# Altium schematic symbol library Schlib2.SchLib: 31 symbols
Pins are listed as number, name and electrical type; pins without a type are passive.

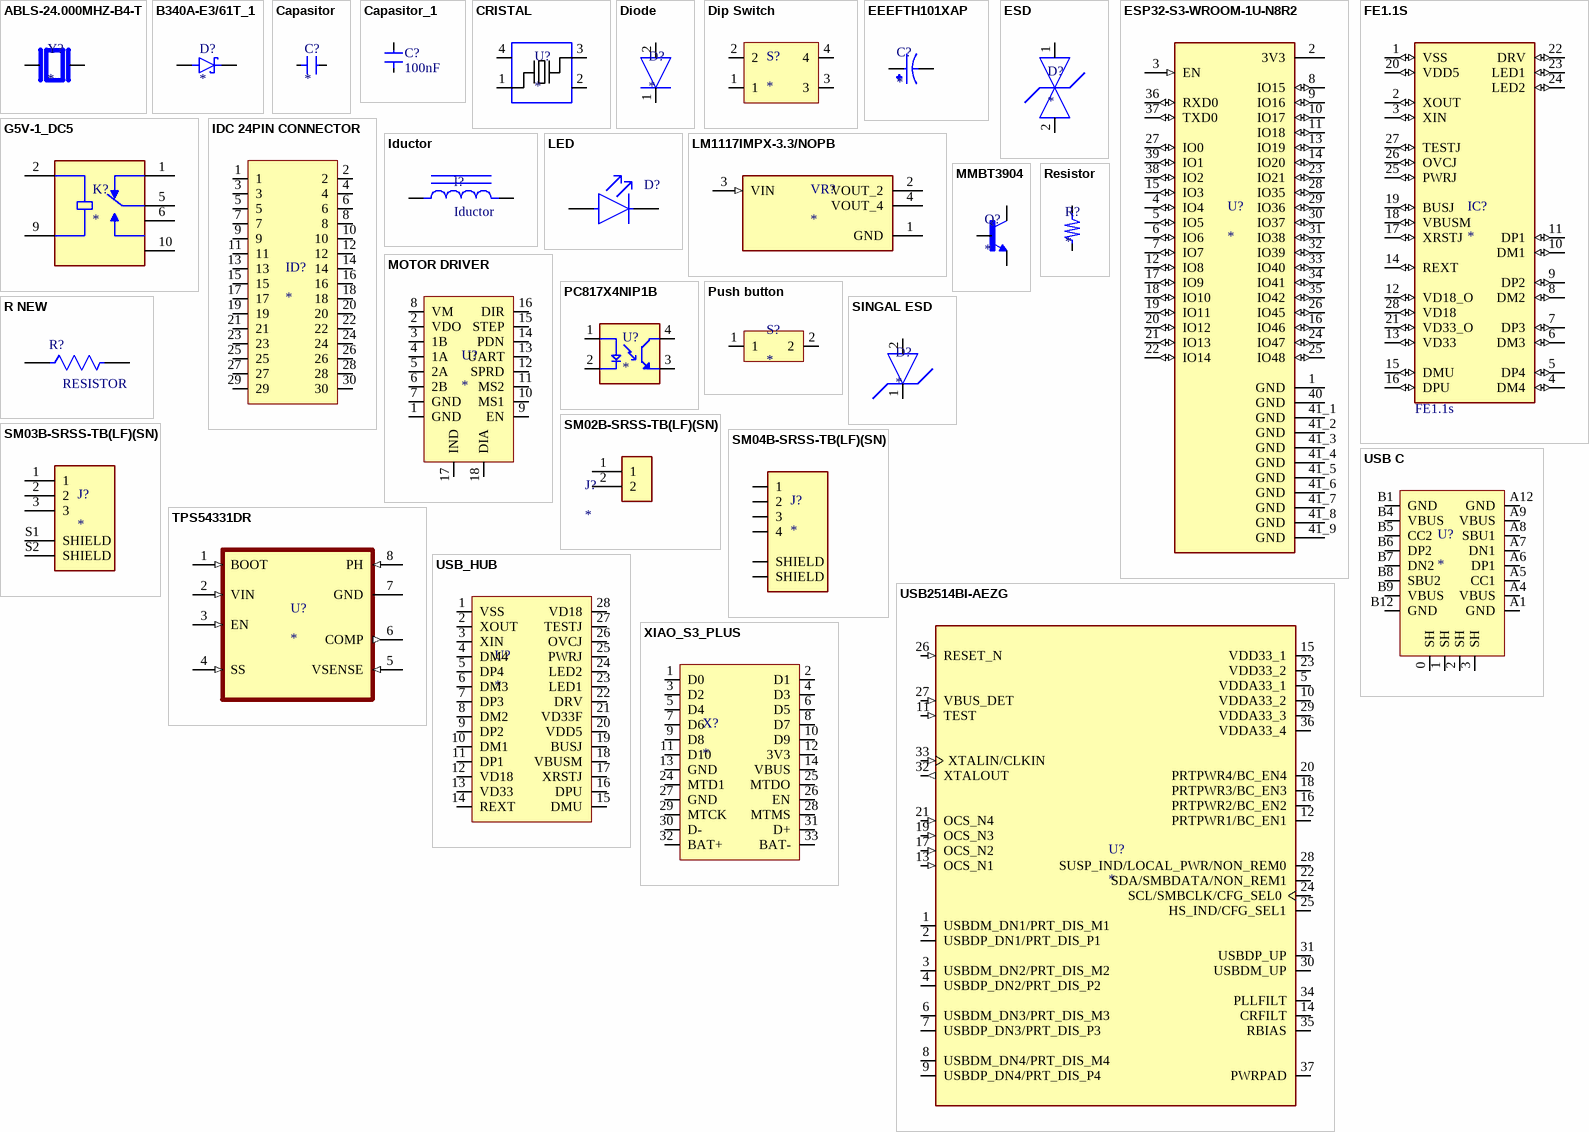
[diagram p0: symbols ABLS-24.000MHZ-B4-T to XIAO_S3_PLUS]

## ABLS-24.000MHZ-B4-T
designator Y?
HC/49US (AT49) SMD LOW PROFILE CRYSTAL; MF: Abracon LLC; MP: ABLS-24.000MHZ-B4-T; SnapEDA_Link: https://www.snapeda.com/parts/ABLS-24.000MHZ-B4-T/Abracon/view-part/?ref=snap; Package: HC-49/US Abracon LLC; Value: *; Check_prices: https://www.snapeda.com/parts/ABLS-24.000MHZ-B4-T/Abracon/view-part/?ref=eda
footprint XTAL_ABLS-24.000MHZ-B4-T
pins: 1, 2

## B340A-E3/61T_1
designator D?
Diode Schottky 40 V 3A Surface Mount DO-214AC (SMA); MF: Vishay Semiconductor; MP: B340A-E3/61T; SnapEDA_Link: https://www.snapeda.com/parts/B340A-E3/61T/Vishay/view-part/?ref=snap; Package: DO-214 Vishay Semiconductor; Value: *; Check_prices: https://www.snapeda.com/parts/B340A-E3/61T/Vishay/view-part/?ref=eda
footprint DIOM5126X229N
pins: A, C

## Capasitor
designator C?
Part Number: *; Manufacture: *; Footprint size: *; ComponentLink1Description: New link; ComponentLink1URL: *; Supplier: *; Supplier Part Number: *; Link: *
pins: 1, 2

## Capasitor_1
designator C?, comment 100nF
Part Number: CC0603JRX7R9BB104; Manufacture: YAGEO; Footprint size: 0603; ComponentLink1Description: New link; ComponentLink1URL: *; Supplier: LCSC; Supplier Part Number: C91183; Link: https://www.lcsc.com/product-detail/C91183.html
footprint CAP 0603
pins: 1, 2

## CRISTAL
designator U?
pins: 1, 2, 3, 4

## Diode
designator D?
Manufacture: *; Part Number: *; Footprint size: *; Supplier Part Number: *; Supplier: *; Link: *
pins: 1, 2

## Dip Switch
designator S?
Manufacture: *; Part Number: *; Footprint size: *; Supplier: *; Supplier Part Number: *; Link: *
pins: 1, 2, 3, 4

## EEEFTH101XAP
designator C?
100ÂµF 50V Aluminum Electrolytic Capacitors Radial, Can - SMD 340mOhm @ 100kHz 2000 Hrs @ 105Â°C; MF: Panasonic Electronic; MP: EEE-FTH101XAP; SnapEDA_Link: https://www.snapeda.com/parts/EEE-FTH101XAP/Panasonic/view-part/?ref=snap; Package: RADIAL-2 Panasonic; Value: *; Check_prices: https://www.snapeda.com/parts/EEE-FTH101XAP/Panasonic/view-part/?ref=eda
footprint CAP_EEEFTH101XAP
pins: 1, 2

## ESD
designator D?
pins: 1, 2

## ESP32-S3-WROOM-1U-N8R2
designator U?
Bluetooth, WiFi 802.11b/g/n, Bluetooth v5.0 Transceiver Module 2.4GHz Antenna Not Included, U.FL Surface Mount; MF: Espressif Systems; MP: ESP32-S3-WROOM-1U-N8R2; SnapEDA_Link: https://www.snapeda.com/parts/ESP32-S3-WROOM-1U-N8R2/Espressif+Systems/view-part/?ref=snap; Package: SMD-41 Espressif Systems; Value: *; Check_prices: https://www.snapeda.com/parts/ESP32-S3-WROOM-1U-N8R2/Espressif+Systems/view-part/?ref=eda
footprint XCVR_ESP32-S3-WROOM-1U-N8R2
pins: 1 GND, 2 3V3, 3 EN (in), 4 IO4 (io), 5 IO5 (io), 6 IO6 (io), 7 IO7 (io), 8 IO15 (io), 9 IO16 (io), 10 IO17 (io), 11 IO18 (io), 12 IO8 (io), 13 IO19 (io), 14 IO20 (io), 15 IO3 (io), 16 IO46 (io), 17 IO9 (io), 18 IO10 (io), 19 IO11 (io), 20 IO12 (io), 21 IO13 (io), 22 IO14 (io), 23 IO21 (io), 24 IO47 (io), 25 IO48 (io), 26 IO45 (io), 27 IO0 (io), 28 IO35 (io), 29 IO36 (io), 30 IO37 (io), 31 IO38 (io), 32 IO39 (io), 33 IO40 (io), 34 IO41 (io), 35 IO42 (io), 36 RXD0 (io), 37 TXD0 (io), 38 IO2 (io), 39 IO1 (io), 40 GND, 41_1 GND, 41_2 GND, 41_3 GND, 41_4 GND, 41_5 GND, 41_6 GND, 41_7 GND, 41_8 GND, 41_9 GND

## FE1.1S
designator IC?
USB 2.0 HIGH SPEED 4-PORT HUB CONTROLLER; MF: terminus; MP: FE1.1S; SnapEDA_Link: https://www.snapeda.com/parts/FE1.1S/Terminus/view-part/?ref=snap; Package: None; Value: *; Check_prices: https://www.snapeda.com/parts/FE1.1S/Terminus/view-part/?ref=eda
footprint FE1.1S_SSOP-28
pins: 1 VSS (io), 2 XOUT (io), 3 XIN (io), 4 DM4 (io), 5 DP4 (io), 6 DM3 (io), 7 DP3 (io), 8 DM2 (io), 9 DP2 (io), 10 DM1 (io), 11 DP1 (io), 12 VD18_O (io), 13 VD33 (io), 14 REXT (io), 15 DMU (io), 16 DPU (io), 17 XRSTJ (io), 18 VBUSM (io), 19 BUSJ (io), 20 VDD5 (io), 21 VD33_O (io), 22 DRV (io), 23 LED1 (io), 24 LED2 (io), 25 PWRJ (io), 26 OVCJ (io), 27 TESTJ (io), 28 VD18 (io)
text: FE1.1s

## G5V-1_DC5
designator K?
General Purpose Relay SPDT (1 Form C) Through Hole; MF: Omron; MP: G5V-1 DC5; Package: None; Price: None; Value: *; SnapEDA_Link: https://www.snapeda.com/parts/G5V-1%20DC5/Omron/view-part/?ref=snap; Availability: Unavailable; Check_prices: https://www.snapeda.com/parts/G5V-1%20DC5/Omron/view-part/?ref=eda
footprint RELAY_G5V-1_DC5
pins: 1 NC, 2 COIL1, 5 COM, 6 COM, 9 COIL2, 10 NO

## IDC 24PIN CONNECTOR
designator ID?
Manufacture: *; Part Number: *; Footprint size: *; Supplier: *; Supplier Part Number: *; Link: *
pins: 1, 2, 3, 4, 5, 6, 7, 8, 9, 10, 11, 12, 13, 14, 15, 16, 17, 18, 19, 20, 21, 22, 23, 24, 25, 26, 27, 28, 29, 30

## Iductor
designator l?
Manufacture: *; Part Number: *; Footprint size: *; ComponentLink1Description: New link; ComponentLink1URL: *; Supplier: *; Supplier Part Number: *; Link: *
pins: 1, 2

## LED
designator D?  (value not drawn)
Manufacture: *; Part Number: *; Footprint size: *; ComponentLink1Description: New link; ComponentLink1URL: *; Supplier: *; Supplier Part Number: *; Link: *
footprint FP-LTST-C191TBKT-MFG
pins: 1 C, 2 A

## LM1117IMPX-3.3/NOPB
designator VR?
800-mA 15-V linear voltage regulator; MF: Texas Instruments; MP: LM1117IMPX-3.3/NOPB; SnapEDA_Link: https://www.snapeda.com/parts/LM1117IMPX-3.3/NOPB/Texas+Instruments/view-part/?ref=snap; Package: SOT-223-4 Texas Instruments; Value: *; Check_prices: https://www.snapeda.com/parts/LM1117IMPX-3.3/NOPB/Texas+Instruments/view-part/?ref=eda
footprint VREG_LM1117IMPX-3.3/NOPB
pins: 1 GND, 2 VOUT_2, 3 VIN (in), 4 VOUT_4

## MMBT3904
designator Q?
BJT, SOT-23, 40V, 200mA, NPN, 0.35W, 150Â°C; MF: Diotec Semiconductor; MP: MMBT3904; SnapEDA_Link: https://www.snapeda.com/parts/MMBT3904/Diotec/view-part/?ref=snap; Package: SOT-23 Diotec; Value: *; Check_prices: https://www.snapeda.com/parts/MMBT3904/Diotec/view-part/?ref=eda
footprint TRANS_MMBT3904
pins: 1 B, 2 E, 3 C

## MOTOR DRIVER
designator U?
pins: 1 GND, 2 VDO, 3 1B, 4 1A, 5 2A, 6 2B, 7 GND, 8 VM, 9 EN, 10 MS1, 11 MS2, 12 SPRD, 13 UART, 14 PDN, 15 STEP, 16 DIR, 17 IND, 18 DIA

## PC817X4NIP1B
designator U?
Optocoupler DC-IN 1-CH Transistor DC-OUT 4-Pin DIP SMD T/R; MF: Sharp Microelectronics; MP: PC817X4NIP1B; SnapEDA_Link: https://www.snapeda.com/parts/PC817X4NIP1B/Sharp/view-part/?ref=snap; Package: None; Value: *; Check_prices: https://www.snapeda.com/parts/PC817X4NIP1B/Sharp/view-part/?ref=eda
footprint SOIC254P960X420-4N
pins: 1 A, 2 C, 3 ET, 4 CT

## Push button
designator S?
pins: 1, 2

## R NEW
designator R?, comment RESISTOR
Manufacture: *; Part Number: *; Footprint size: *; ComponentLink1Description: New link; ComponentLink1URL: *; Supplier: *; Supplier Part Number: *; Link: *
footprint FP-CRCW0402-e3-IPC_C
footprint FP-CRCW0402-e3-IPC_B
footprint FP-CRCW0402-e3-IPC_A
footprint FP-CRCW0402-e3-MFG
pins: 1, 2

## Resistor
designator R?
Manufacture: *; Part Number: *; Footprint size: *; ComponentLink1Description: New link; ComponentLink1URL: *; Supplier: *; Supplier Part Number: *; Link: *
pins: 1, 2

## SINGAL ESD
designator D?
pins: 1, 2

## SM02B-SRSS-TB(LF)(SN)
designator J?
Connector Header Surface Mount, Right Angle 2 position 0.039 (1.00mm); MF: JST Sales; MP: SM02B-SRSS-TB (LF)(SN); SnapEDA_Link: https://www.snapeda.com/parts/SM02B-SRSS-TB%20(LF)(SN)/JST/view-part/?ref=snap; Package: None; Value: *; Check_prices: https://www.snapeda.com/parts/SM02B-SRSS-TB%20(LF)(SN)/JST/view-part/?ref=eda
footprint SM02B-SRSS-TB(LF)(SN)
pins: 1, 2

## SM03B-SRSS-TB(LF)(SN)
designator J?
Connector Header Surface Mount, Right Angle 3 position 0.039 (1.00mm); MF: JST Sales; MP: SM03B-SRSS-TB (LF)(SN); SnapEDA_Link: https://www.snapeda.com/parts/SM03B-SRSS-TB%20(LF)(SN)/JST/view-part/?ref=snap; Package: None; Value: *; Check_prices: https://www.snapeda.com/parts/SM03B-SRSS-TB%20(LF)(SN)/JST/view-part/?ref=eda
footprint JST_SM03B-SRSS-TB(LF)(SN)
pins: 1, 2, 3, S1 SHIELD, S2 SHIELD

## SM04B-SRSS-TB(LF)(SN)
designator J?
Connector Header Surface Mount, Right Angle 4 position 0.039 (1.00mm); MF: JST Sales; MP: SM04B-SRSS-TB(LF)(SN); SnapEDA_Link: https://www.snapeda.com/parts/SM04B-SRSS-TB(LF)(SN)/JST/view-part/?ref=snap; Package: None; Value: *; Check_prices: https://www.snapeda.com/parts/SM04B-SRSS-TB(LF)(SN)/JST/view-part/?ref=eda
footprint JST_SM04B-SRSS-TB(LF)(SN)
pins: 1, 2, 3, 4, S1 SHIELD, S2 SHIELD

## TPS54331DR
designator U?
3.5V to 28V Input, 3A, 570kHz Step-Down Converter with Eco-mode; MF: Texas Instruments; MP: TPS54331DR; SnapEDA_Link: https://www.snapeda.com/parts/TPS54331DR/Texas+Instruments/view-part/?ref=snap; Package: SOIC-8 Texas Instruments; Value: *; Check_prices: https://www.snapeda.com/parts/TPS54331DR/Texas+Instruments/view-part/?ref=eda
footprint SOIC127P599X175-8N
pins: 1 BOOT (in), 2 VIN (in), 3 EN (in), 4 SS (in), 5 VSENSE (in), 6 COMP (out), 7 GND (power), 8 PH (in)

## USB2514BI-AEZG
designator U?
USB Hub Controller USB 2.0 USB Interface 36-QFN (6x6); MF: Microchip; MP: USB2514BI-AEZG-TR; SnapEDA_Link: https://www.snapeda.com/parts/USB2514BI-AEZG-TR/Microchip/view-part/?ref=snap; Package: VQFN-36 Microchip; Value: *; Check_prices: https://www.snapeda.com/parts/USB2514BI-AEZG-TR/Microchip/view-part/?ref=eda
footprint QFN50P600X600X100-37N
pins: 1 USBDM_DN1/PRT_DIS_M1 (io), 2 USBDP_DN1/PRT_DIS_P1 (io), 3 USBDM_DN2/PRT_DIS_M2 (io), 4 USBDP_DN2/PRT_DIS_P2 (io), 5 VDDA33_1 (power), 6 USBDM_DN3/PRT_DIS_M3 (io), 7 USBDP_DN3/PRT_DIS_P3 (io), 8 USBDM_DN4/PRT_DIS_M4 (io), 9 USBDP_DN4/PRT_DIS_P4 (io), 10 VDDA33_2 (power), 11 TEST (in), 12 PRTPWR1/BC_EN1 (io), 13 OCS_N1 (in), 14 CRFILT, 15 VDD33_1, 16 PRTPWR2/BC_EN2 (io), 17 OCS_N2 (in), 18 PRTPWR3/BC_EN3 (io), 19 OCS_N3 (in), 20 PRTPWR4/BC_EN4 (io), 21 OCS_N4 (in), 22 SDA/SMBDATA/NON_REM1 (io), 23 VDD33_2, 24 SCL/SMBCLK/CFG_SEL0 (io), 25 HS_IND/CFG_SEL1 (io), 26 RESET_N (in), 27 VBUS_DET (in), 28 SUSP_IND/LOCAL_PWR/NON_REM0 (io), 29 VDDA33_3 (power), 30 USBDM_UP (io), 31 USBDP_UP (io), 32 XTALOUT (out), 33 XTALIN/CLKIN (in), 34 PLLFILT, 35 RBIAS, 36 VDDA33_4 (power), 37 PWRPAD (power)

## USB C
designator U?
pins: 0 SH, 1 SH, 2 SH, 3 SH, A1 GND, A4 VBUS, A5 CC1, A6 DP1, A7 DN1, A8 SBU1, A9 VBUS, A12 GND, B1 GND, B4 VBUS, B5 CC2, B6 DP2, B7 DN2, B8 SBU2, B9 VBUS, B12 GND

## USB_HUB
designator U?
pins: 1 VSS, 2 XOUT, 3 XIN, 4 DM4, 5 DP4, 6 DM3, 7 DP3, 8 DM2, 9 DP2, 10 DM1, 11 DP1, 12 VD18, 13 VD33, 14 REXT, 15 DMU, 16 DPU, 17 XRSTJ, 18 VBUSM, 19 BUSJ, 20 VDD5, 21 VD33F, 22 DRV, 23 LED1, 24 LED2, 25 PWRJ, 26 OVCJ, 27 TESTJ, 28 VD18

## XIAO_S3_PLUS
designator X?
pins: 1 D0, 2 D1, 3 D2, 4 D3, 5 D4, 6 D5, 7 D6, 8 D7, 9 D8, 10 D9, 11 D10, 12 3V3, 13 GND, 14 VBUS, 24 MTD1, 25 MTDO, 26 EN, 27 GND, 28 MTMS, 29 MTCK, 30 D-, 31 D+, 32 BAT+, 33 BAT-